# Altium footprint library VSSOP8_3X3.PcbLib: 1 footprints
Each footprint in its own frame and in the unit in brackets; x right, y up, seen from the top. Pads: shape width x height; smd on the part's side, far side on the other; paste and mask are expansions set on the pad; w line width, h text height; cw(c..) or ccw(c..) is an arc to the next point about the centre after c.
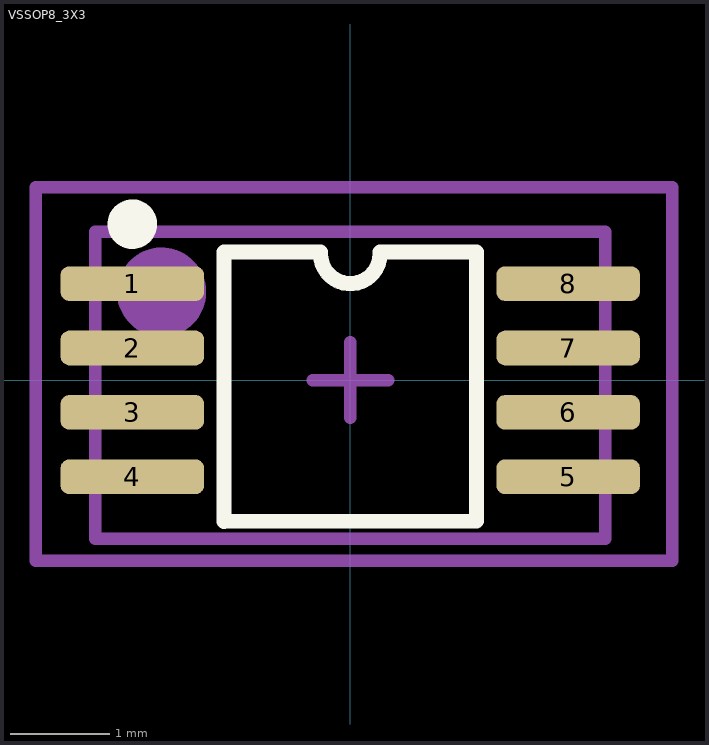
[diagram p0: the footprint, top view; thin cyan lines are the x and y axes]

## VSSOP8_3X3 [mm]
pads (8):
  rrect50% 1.45x0.35 smd mask+0.05: 1(-2.2,0.975) 2(-2.2,0.325) 3(-2.2,-0.325) 4(-2.2,-0.975) 5(2.2,-0.975) 6(2.2,-0.325) 7(2.2,0.325) 8(2.2,0.975)
Top Overlay:
  circle w0.25: c-2.2,1.575 r0.125
  lines w0.152: -0.3,1.275 ccw(c0,1.275) 0.3,1.275 ; -0.3,1.293 -1.275,1.293 -1.275,-1.426 1.275,-1.421 1.275,1.293 0.3,1.293
Top Assembly:
  circle w0.5: c-1.905,0.889 r0.2
  lines w0.127: -2.575,-1.6 2.575,-1.6 2.575,1.5 -2.575,1.5 -2.575,-1.6
  text "'.Designator'" at -1.397,0 h0.3
Top Courtyard:
  lines w0.127: -0.381,0 0.381,0 ; 0,-0.381 0,0.381 ; -3.175,-1.825 -3.175,1.95 3.25,1.95 3.25,-1.825 -3.175,-1.825
3D body "User Library-VSSOP8 3x3 e0_65-1.step": height 1.1, standoff 0, extent -2.5,-1.5 2.5,1.5